# EAGLE library part MAXIM_MAX_98307 (library john_mamish_assorted_analog_library)
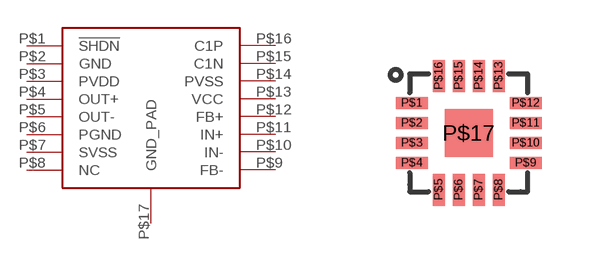
[diagram p3: symbol with the pads of MAXIM_16_TQFN_T1633-5; footprint MAXIM_16_TQFN_T1633-5]

Designator prefix -

## MAXIM_MAX_98307  [MAXIM_16_TQFN_T1633-5]
P$1  !SHDN!
P$2  GND
P$3  PVDD
P$4  OUT+
P$5  OUT-
P$6  PGND
P$7  SVSS
P$8  NC
P$9  FB-
P$10  IN-
P$11  IN+
P$12  FB+
P$13  VCC
P$14  PVSS
P$15  C1N
P$16  C1P
P$17  GND_PAD

## Footprint MAXIM_16_TQFN_T1633-5 (pad centres in mm)
smd 0.8 x 0.3: P$1 0,0; P$2 0,-0.5; P$3 0,-1; P$4 0,-1.5; P$9 2.85,-1.5; P$10 2.85,-1; P$11 2.85,-0.5; P$12 2.85,0
smd 0.3 x 0.8: P$5 0.675,-2.175; P$6 1.175,-2.175; P$7 1.675,-2.175; P$8 2.175,-2.175; P$13 2.175,0.675; P$14 1.675,0.675; P$15 1.175,0.675; P$16 0.675,0.675
smd 1.2 x 1.2: P$17 1.425,-0.75